# EAGLE library part G6K-2F-RFDC12 (library Relay)
RELAY RF DPDT 1A 12V Manufacturer's datasheet <https://omronfs.omron.com/en_US/ecb/products/pdf/en-g6k_2f_rf.pdf>
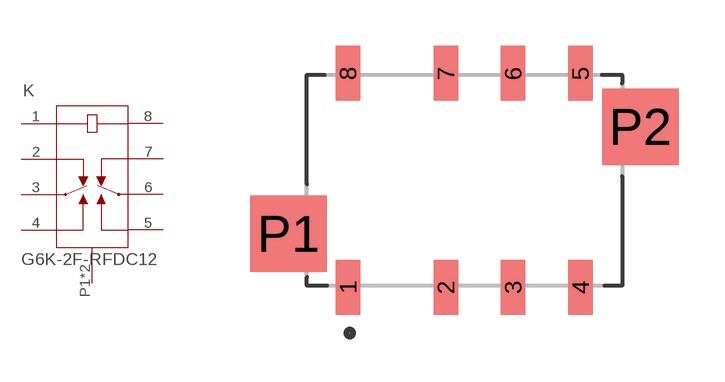
[diagram p12: symbol with the pads of G6K-2F-RFDC12; footprint G6K-2F-RFDC12]

Designator prefix K

## G6K-2F-RFDC12 (CREATED_BY: PCBLayout.com; DIGIKEY_PARTNO: Z2033-ND; MANUFACTURER: Omron Electronics Inc-EMC Div; MPN: G6K-2F-RF DC12)  [G6K-2F-RFDC12]
1  1  pas
2  2  pas
3  3  pas
4  4  pas
5  5  pas
6  6  pas
7  7  pas
8  8  pas
P1  SHEILD  pas
P2  SHEILD  pas

## Footprint G6K-2F-RFDC12 (pad centres in mm)
smd 0.8 x 1.8: 1 -3.81,-3.5; 2 -0.61,-3.5; 3 1.59,-3.5; 4 3.79,-3.5; 5 3.79,3.5; 6 1.59,3.5; 7 -0.61,3.5; 8 -3.81,3.5
smd 2.5 x 2.5: P1 -5.75,-1.75; P2 5.75,1.75